# Altium footprint library SIP8-P-2.54A.PcbLib: 1 footprints
Each footprint in its own frame and in the unit in brackets; x right, y up, seen from the top. Pads: shape width x height; smd on the part's side, far side on the other; paste and mask are expansions set on the pad; w line width, h text height; cw(c..) or ccw(c..) is an arc to the next point about the centre after c.
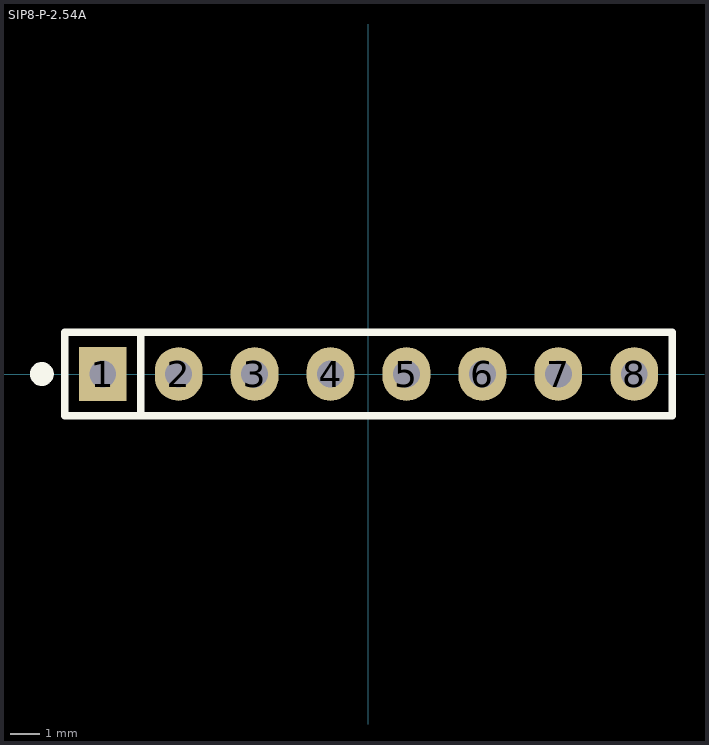
[diagram p0: the footprint, top view; thin cyan lines are the x and y axes]

## SIP8-P-2.54A [mm]
pads (8):
  rect 1.6x1.8 hole 0.9: 1(-8.89,0)
  oval 1.6x1.8 hole 0.9: 2(-6.35,0) 3(-3.81,0) 4(-1.27,0) 5(1.27,0) 6(3.81,0) 7(6.35,0) 8(8.89,0)
Top Overlay:
  circle w0.4: c-10.93,0 r0.2
  lines w0.254: -7.62,-1.4 -7.62,1.4 ; -10.16,-1.4 -10.16,1.4 10.16,1.4 10.16,-1.4 -10.16,-1.4